# Altium footprint library Connector.PcbLib: 32 footprints (part 2 of 2)
Each footprint in its own frame and in the unit in brackets; x right, y up, seen from the top. Pads: shape width x height; smd on the part's side, far side on the other; paste and mask are expansions set on the pad; w line width, h text height; cw(c..) or ccw(c..) is an arc to the next point about the centre after c.
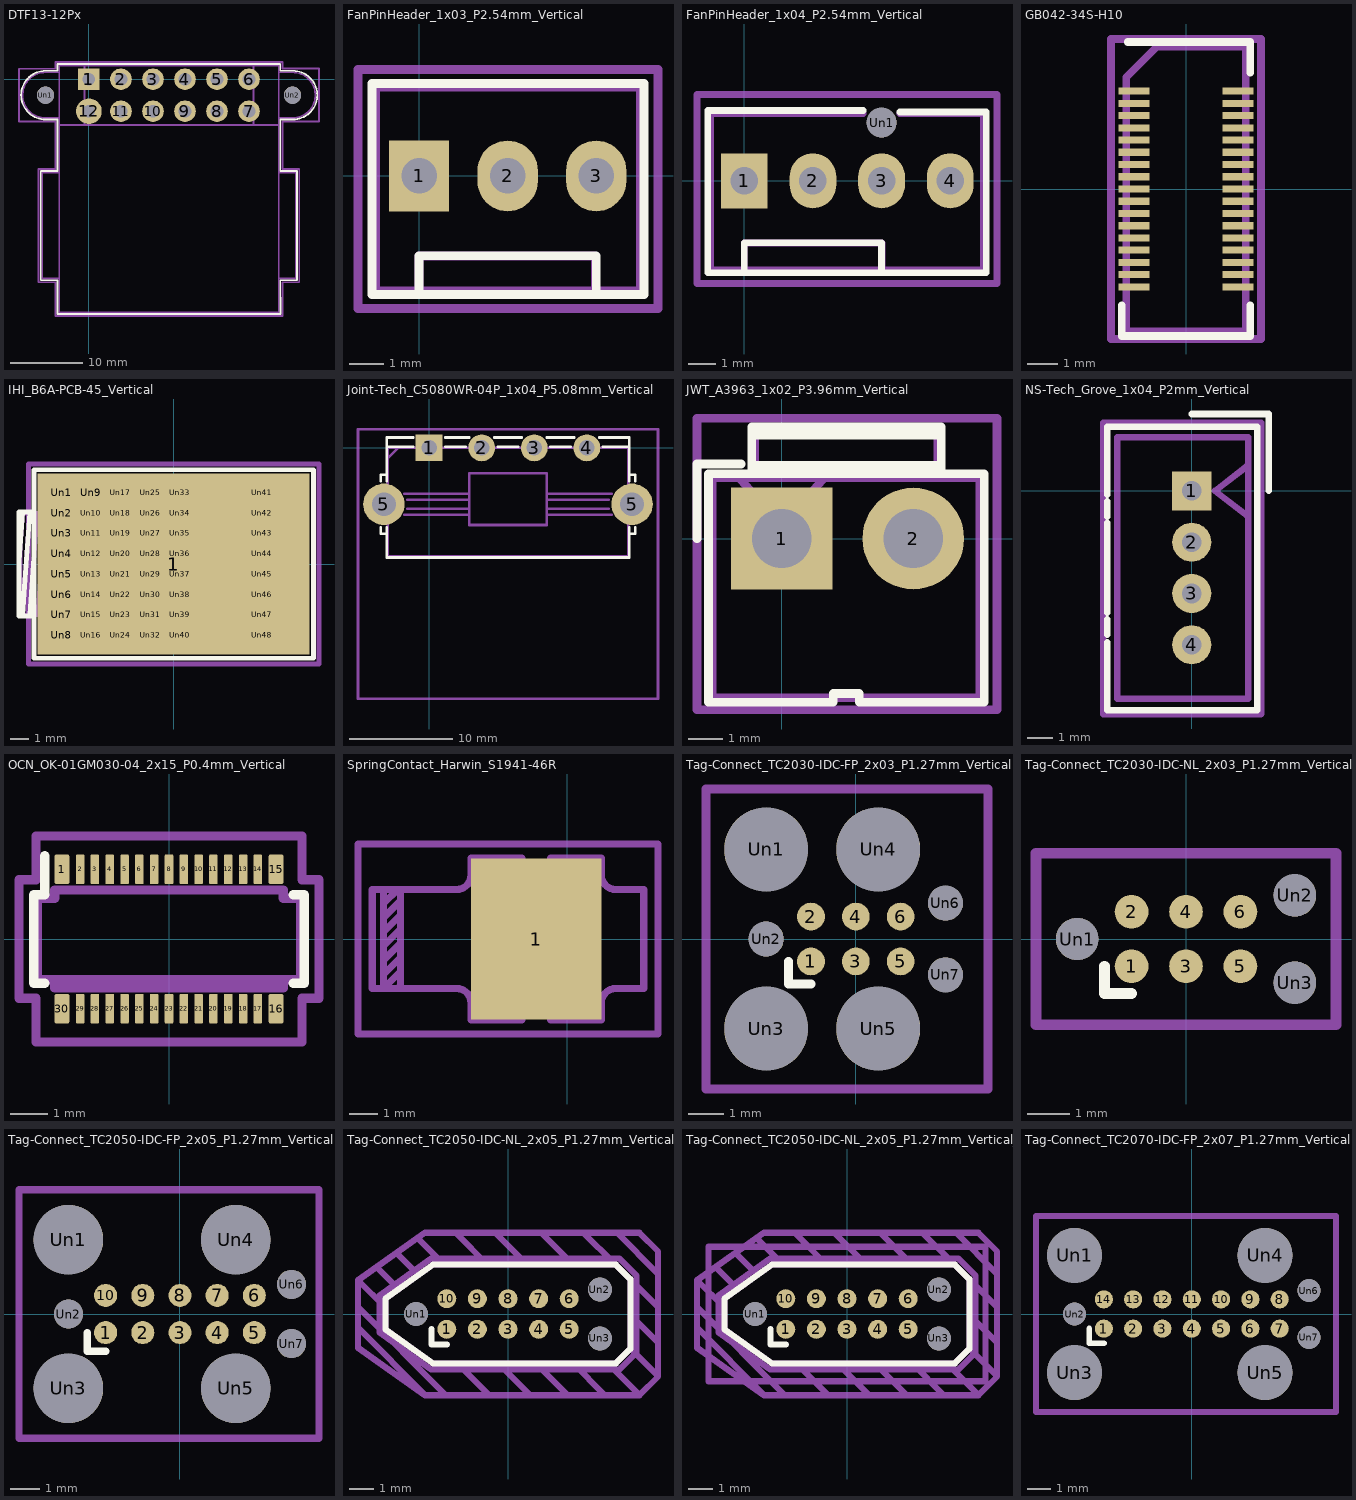
[diagram p1: the footprints below, top view; thin cyan lines are the x and y axes]

## DTF13-12Px [mm]
pads (14):
  rect 3x3 hole 1.75: 1(0,0)
  round 3 hole 1.75: 2(4.445,0) 3(8.89,0) 4(13.335,0) 5(17.78,0) 6(22.225,0) 7(22.225,-4.445) 8(17.78,-4.445) 9(13.335,-4.445) 10(8.89,-4.445) 11(4.445,-4.445)
  round 3.556 hole 1.75: 12(0,-4.445)
  round 2.4 hole 2.4: Un1(-6.032,-2.21) Un2(28.258,-2.21)
F.SilkS:
  lines w0.254: -6.033,-5.588 cw(c-6.032,-2.21) -6.032,1.168 ; -6.02,-5.588 -4.343,-5.588 -4.343,-12.751 -6.68,-12.751 -6.68,-27.915 -4.369,-27.915 -4.343,-32.588 26.594,-32.588 26.568,-27.915 28.905,-27.915 28.905,-12.751 26.568,-12.751 26.568,-5.588 28.296,-5.588 ; -6.02,1.168 -4.343,1.168 -4.343,2.108 26.568,2.108 26.568,1.168 28.296,1.168 ; 28.321,-5.588 ccw(c28.321,-2.21) 28.321,1.168
Top Assembly:
  lines w0.254: -6.032,0.965 -4.127,0.965 ; -5.999,0.965 ccw(c-6.032,-2.21) -6.033,-5.385 -4.127,-5.385 ; -4.127,-27.686 -6.477,-27.686 -6.477,-12.954 -4.127,-12.954 ; -4.127,-6.35 -0.635,-6.35 ; 26.352,-27.686 28.702,-27.686 28.702,-12.954 26.352,-12.954 ; 26.352,-6.35 22.86,-6.35 ; 26.352,-5.385 28.258,-5.385 ccw(c28.258,-2.21) 28.258,0.965 26.352,0.965 ; -0.635,-6.35 22.86,-6.35 ; -0.635,-6.35 -0.635,1.905 ; -0.635,1.905 22.86,1.905 ; -0.635,1.905 -4.127,1.905 -4.127,-32.385 26.352,-32.385 26.352,1.905 22.86,1.905 ; 22.86,-6.35 22.86,1.905
  text "'.Designator'" at 7.653,-19.74 h1
Top Courtyard:
  lines w0.254: -9.71,-5.88 -4.63,-5.88 -4.63,-12.45 -6.98,-12.45 -6.98,-28.19 -4.63,-28.19 -4.63,-32.88 26.85,-32.88 26.85,-28.19 29.2,-28.19 29.2,-12.45 26.85,-12.45 26.85,-5.88 31.94,-5.88 31.94,1.47 26.85,1.47 26.85,2.4 -4.63,2.4 -4.63,1.46 -9.71,1.46 -9.71,-5.88
Top Designator:
  text ".Designator" at 3.497,-15.748 h1.52

## FanPinHeader_1x03_P2.54mm_Vertical [mm]
pads (3):
  rect 1.73x2.03 hole 1.02: 1(0,0)
  rrect100% 1.73x2.03 hole 1.02: 2(2.54,0) 3(5.08,0)
F.SilkS:
  lines w0.254: 0,-3.3 0,-2.29 5.08,-2.29 5.08,-3.3 ; -1.35,-3.4 6.45,-3.4 6.45,2.65 -1.35,2.65 -1.35,-3.4
Top Assembly:
  lines w0.254: 0,-3.3 0,-2.3 5.05,-2.3 5.05,-3.3 ; -1.25,-3.3 6.35,-3.3 6.35,2.55 -1.25,2.55 -1.25,-3.3
  text "'.Designator'" at -1.597,-2.64 h1
Top Courtyard:
  lines w0.254: -1.75,-3.8 6.85,-3.8 6.85,3.05 -1.75,3.05 -1.75,-3.8
Top Designator:
  text ".Designator" at -5.068,-0.883 h1.52

## FanPinHeader_1x04_P2.54mm_Vertical [mm]
pads (5):
  rect 1.73x2.03 hole 1.02: 1(0,0)
  rrect100% 1.73x2.03 hole 1.02: 2(2.54,0) 3(5.08,0) 4(7.62,0)
  round 1.1 hole 1.1: Un1(5.08,2.16)
F.SilkS:
  lines w0.254: 0,-3.3 0,-2.29 5.08,-2.29 5.08,-3.3 ; 4.4,2.6 -1.35,2.6 -1.35,-3.4 8.95,-3.4 8.95,2.55 5.75,2.55
Top Assembly:
  lines w0.254: 0,-3.3 0,-2.3 5.1,-2.3 5.1,-3.3 ; 4.4,2.5 -1.25,2.5 -1.25,-3.3 -1.2,-3.3 8.85,-3.3 8.85,2.5 5.75,2.5
  text "'.Designator'" at -2.197,0.91 h1
Top Courtyard:
  lines w0.254: -1.75,-3.8 9.35,-3.8 9.35,3.2 -1.75,3.2 -1.75,-3.8
Top Designator:
  text ".Designator" at -4.052,-0.808 h1.52

## GB042-34S-H10 [mm]
pads (34):
  rect 1x0.23 smd: 1(-1.7,3.2) 2(-1.7,2.8) 3(-1.7,2.4) 4(-1.7,2) 5(-1.7,1.6) 6(-1.7,1.2) 7(-1.7,0.8) 8(-1.7,0.4) 9(-1.7,0) 10(-1.7,-0.4) 11(-1.7,-0.8) 12(-1.7,-1.2) 13(-1.7,-1.6) 14(-1.7,-2) 15(-1.7,-2.4) 16(-1.7,-2.8) 17(-1.7,-3.2) 18(1.7,-3.2) 19(1.7,-2.8) 20(1.7,-2.4) 21(1.7,-2) 22(1.7,-1.6) 23(1.7,-1.2) 24(1.7,-0.8) 25(1.7,-0.4) 26(1.7,0) 27(1.7,0.4) 28(1.7,0.8) 29(1.7,1.2) 30(1.7,1.6) 31(1.7,2) 32(1.7,2.4) 33(1.7,2.8) 34(1.7,3.2)
F.SilkS:
  lines w0.254: -2.1,-3.8 -2.1,-4.8 2.1,-4.8 2.1,-3.8 ; -1.9,4.8 2.1,4.8 2.1,3.8
Top Assembly:
  lines w0.254: -1.95,-4.65 1.95,-4.65 1.95,4.65 -0.95,4.65 -1.95,3.65 -1.95,-4.65
  text "'.Designator'" at -4.047,4.71 h1
Top Courtyard:
  lines w0.254: -2.45,-4.9 2.45,-4.9 2.45,4.9 -2.45,4.9 -2.45,-4.9
Top Designator:
  text ".Designator" at -7.768,-0.068 h1.52

## IHI_B6A-PCB-45_Vertical [mm]
pads (49):
  rect 14.7x9.8 smd: 1(0,0)
  rect 1.3x0.8 on Top Paste: Un1(-6.05,3.85) Un2(-6.05,2.75) Un3(-6.05,1.65) Un4(-6.05,0.55) Un5(-6.05,-0.55) Un6(-6.05,-1.65) Un7(-6.05,-2.75) Un8(-6.05,-3.85) Un9(-4.45,3.85) Un10(-4.45,2.75) Un11(-4.45,1.65) Un12(-4.45,0.55) Un13(-4.45,-0.55) Un14(-4.45,-1.65) Un15(-4.45,-2.75) Un16(-4.45,-3.85) Un17(-2.85,3.85) Un18(-2.85,2.75) Un19(-2.85,1.65) Un20(-2.85,0.55) Un21(-2.85,-0.55) Un22(-2.85,-1.65) Un23(-2.85,-2.75) Un24(-2.85,-3.85) Un25(-1.25,3.85) Un26(-1.25,2.75) Un27(-1.25,1.65) Un28(-1.25,0.55) Un29(-1.25,-0.55) Un30(-1.25,-1.65) Un31(-1.25,-2.75) Un32(-1.25,-3.85) Un33(0.35,3.85) Un34(0.35,2.75) Un35(0.35,1.65) Un36(0.35,0.55) Un37(0.35,-0.55) Un38(0.35,-1.65) Un39(0.35,-2.75) Un40(0.35,-3.85) Un41(4.78,3.85) Un42(4.78,2.75) Un43(4.78,1.65) Un44(4.78,0.55) Un45(4.78,-0.55) Un46(4.78,-1.65) Un47(4.78,-2.75) Un48(4.78,-3.85)
F.SilkS:
  lines w0.254: -8.36,0.175 -8.168,2.81 ; -8.173,-2.75 -7.773,2.75 ; -7.773,-2.75 -7.55,0.35 ; -7.55,-2.81 -8.36,-2.81 -8.36,2.81 -7.55,2.81 ; -7.55,-5.1 7.55,-5.1 7.55,5.1 -7.55,5.1 -7.55,-5.1
Top Assembly:
  lines w0.254: -8.3,1 -8.173,2.75 ; -8.173,-2.75 -7.773,2.75 ; -7.773,-2.75 -7.373,2.75 ; -7.35,-2.75 -6.95,2.75 ; -6.95,-2.75 -6.73,-0.275 ; -6.731,-2.75 -8.3,-2.75 -8.3,2.75 -6.731,2.75 ; 1.054,-4.267 1.054,4.267 ; 4.062,-4.267 4.062,4.267 ; 5.498,-4.267 5.498,4.267 ; -6.731,-4.267 6.731,-4.267 6.731,4.267 -6.731,4.267 -6.731,-4.267
  text "'.Designator'" at -3.997,4.91 h1
Top Courtyard:
  lines w0.254: -7.85,-5.4 7.85,-5.4 7.85,5.4 -7.85,5.4 -7.85,-5.4
Top Designator:
  text ".Designator" at -7.873,-0.218 h1.52

## Joint-Tech_C5080WR-04P_1x04_P5.08mm_Vertical [mm]
pads (6):
  rect 2.6x2.55 hole 1.52: 1(0,0)
  round 2.6 hole 1.52: 2(5.08,0) 3(10.16,0) 4(15.24,0)
  round 4 hole 2.3: 5(-4.38,-5.45) 5(19.62,-5.45)
F.SilkS:
  lines w0.254: -4.67,-7.7 -4.67,-8.3 -4.09,-8.3 ; -4.67,-3.2 -4.67,-2.6 -4.09,-2.6 ; -4.09,-7.7 -4.09,-10.6 19.33,-10.6 19.33,-7.7 ; -4.09,-3.2 -4.09,1 -1.55,1 ; -4.09,0.1 -1.55,0.1 ; 1.55,0.1 3.53,0.1 ; 1.55,1 3.88,1 ; 6.28,1 8.96,1 ; 6.63,0.1 8.61,0.1 ; 11.36,1 14.04,1 ; 11.71,0.1 13.69,0.1 ; 16.44,1 19.33,1 19.33,-3.2 ; 16.79,0.1 19.33,0.1 ; 19.33,-8.3 19.91,-8.3 19.91,-7.7 ; 19.33,-2.6 19.91,-2.6 19.91,-3.2
Top Assembly:
  lines w0.254: -3.99,-1 -2.99,0 ; -2.38,-6.45 3.84,-6.45 ; -2.38,-4.45 3.84,-4.45 ; -2.13,-5.9 3.84,-5.9 ; -2.13,-5 3.84,-5 ; 11.39,-6.45 17.62,-6.45 ; 11.39,-5.9 17.37,-5.9 ; 11.39,-5 17.37,-5 ; 11.39,-4.45 17.62,-4.45 ; -3.99,-10.5 19.23,-10.5 19.23,0 -3.99,0 -3.99,-10.5 ; 3.87,-7.45 11.37,-7.45 11.37,-2.45 3.87,-2.45 3.87,-7.45
  text "'.Designator'" at 3.573,-6.29 h1
Top Courtyard:
  lines w0.254: -6.88,-24.25 22.12,-24.25 22.12,1.8 -6.88,1.8 -6.88,-24.25
Top Designator:
  text ".Designator" at 0.002,-11.733 h1.52

## JWT_A3963_1x02_P3.96mm_Vertical [mm]
pads (2):
  rect 3x3 hole 1.75: 1(0,0)
  round 3 hole 1.75: 2(3.88,0)
F.SilkS:
  lines w0.254: -2.5,0 -2.5,2.2 -1.2,2.2 ; -0.89,1.91 -0.89,3.3 4.7,3.3 4.7,1.91 ; -0.89,2.16 4.7,2.16 ; -0.89,3.05 4.7,3.05 ; -2.16,-4.83 1.52,-4.83 1.52,-4.57 2.29,-4.57 2.29,-4.83 5.97,-4.83 5.97,0 5.97,1.91 -2.16,1.91 -2.16,0 -2.16,-4.83
Top Assembly:
  lines w0.254: -1.25,1.8 0,0.3 1.25,1.8 ; -0.8,1.8 -0.8,3.2 4.6,3.2 4.6,1.8 ; -2.05,-4.7 5.85,-4.7 5.85,1.8 -2.05,1.8 -2.05,-4.7
  text "'.Designator'" at -1.847,-4.54 h1
Top Courtyard:
  lines w0.254: -2.5,-5.05 6.35,-5.05 6.35,3.55 -2.5,3.55 -2.5,-5.05
Top Designator:
  text ".Designator" at -5.693,-1.258 h1.52

## NS-Tech_Grove_1x04_P2mm_Vertical [mil]
pads (4):
  rect 60x60 hole 30: 1(0,0)
  round 60 hole 30: 2(0,-78.74) 3(0,-157.48) 4(0,-236.22)
F.SilkS:
  lines w10: -129.92,-232.28 -129.92,-336.61 100.39,-336.61 100.39,98.43 -129.92,98.43 -129.92,-5.91 ; -129.92,-220.47 -129.92,-196.85 ; -129.92,-187.01 -129.92,-49.21 ; -129.92,-39.37 -129.92,-15.75 ; 0,118.11 118.11,118.11 118.11,0
Top Assembly:
  lines w10: 86.61,-39.37 35.43,0 86.61,39.37 ; -114.17,-318.9 86.61,-318.9 86.61,82.68 -114.17,82.68 -114.17,-318.9
  text "'.Designator'" at -45.66,-238.06 h39.37
Top Courtyard:
  lines w10: -135.83,-342.52 106.3,-342.52 106.3,104.33 -135.83,104.33 -135.83,-342.52
Top Designator:
  text ".Designator" at -308.76,-132.2 h60

## OCN_OK-01GM030-04_2x15_P0.4mm_Vertical [mm]
pads (30):
  rrect25% 0.4x0.8 smd: 1(-2.89,1.88) 15(2.89,1.88) 16(2.89,-1.88) 30(-2.89,-1.88)
  rrect25% 0.23x0.8 smd: 2(-2.4,1.88) 3(-2,1.88) 4(-1.6,1.88) 5(-1.2,1.88) 6(-0.8,1.88) 7(-0.4,1.88) 8(0,1.88) 9(0.4,1.88) 10(0.8,1.88) 11(1.2,1.88) 12(1.6,1.88) 13(2,1.88) 14(2.4,1.88) 17(2.4,-1.88) 18(2,-1.88) 19(1.6,-1.88) 20(1.2,-1.88) 21(0.8,-1.88) 22(0.4,-1.88) 23(0,-1.88) 24(-0.4,-1.88) 25(-0.8,-1.88) 26(-1.2,-1.88) 27(-1.6,-1.88) 28(-2,-1.88) 29(-2.4,-1.88)
F.SilkS:
  lines w0.254: -3.35,-1.2 -3.65,-1.2 -3.65,1.2 -3.35,1.2 -3.35,2.25 ; 3.35,-1.2 3.65,-1.2 3.65,1.2 3.35,1.2
Top Assembly:
  lines w0.254: -3.08,-1.323 3.08,-1.323 ; -3.08,-1.323 -3.08,-1.095 ; -3.08,-1.323 3.08,-1.323 ; -3.08,-1.323 -3.08,-1.095 ; -3.08,-1.095 3.08,-1.095 ; -3.08,-1.095 -3.55,-1.095 -3.55,1.095 -3.08,1.095 -3.08,1.323 3.08,1.323 3.08,1.095 3.55,1.095 3.55,-1.095 3.08,-1.095 ; 3.08,-1.323 3.08,-1.095 ; 3.08,-1.323 3.08,-1.095
  text "'.Designator'" at -4.047,-0.84 h1
Top Courtyard:
  lines w0.254: -4.05,-1.6 -3.59,-1.6 -3.59,-2.78 3.59,-2.78 3.59,-1.6 4.05,-1.6 4.05,1.6 3.59,1.6 3.59,2.78 -3.59,2.78 -3.59,1.6 -4.05,1.6 -4.05,-1.6
Top Designator:
  text ".Designator" at -7.627,-0.508 h1.52

## SpringContact_Harwin_S1941-46R [mm]
pads (1):
  rect 4.6x5.7 smd: 1(-1.1,0)
Top Assembly:
  lines w0.254: -6.89,-1.75 -3.9,-1.75 cw(c-3.9,-2.25) -3.4,-2.25 -3.4,-2.85 -1.6,-2.85 cw(c-1.1,-2.85) -0.6,-2.85 1.2,-2.85 1.2,-2.25 cw(c1.7,-2.25) 1.7,-1.75 2.7,-1.75 2.7,1.75 1.7,1.75 cw(c1.7,2.25) 1.2,2.25 1.2,2.85 -0.6,2.85 cw(c-1.1,2.85) -1.6,2.85 -3.4,2.85 -3.4,2.25 cw(c-3.9,2.25) -3.9,1.75 -6.89,1.75 -6.89,-1.75
  text "'.Designator'" at -4.047,-0.84 h1
Top Courtyard:
  lines w0.254: -7.39,-3.35 3.2,-3.35 3.2,3.35 -7.39,3.35 -7.39,-3.35
Top Designator:
  text ".Designator" at -9.428,-0.508 h1.52
Dwgs.User:
  lines w0.254: -6.49,-1.25 -5.89,-0.65 ; -6.49,-0.75 -5.89,-0.15 ; -6.49,-0.25 -5.89,0.35 ; -6.49,0.25 -5.89,0.85 ; -6.49,0.75 -5.89,1.35 ; -6.49,1.25 -5.99,1.75 ; -5.99,-1.75 -5.89,-1.65 ; -5.89,-1.15 -6.49,-1.75 ; -6.49,-1.75 -5.89,-1.75 -5.89,1.75 -6.49,1.75 -6.49,-1.75

## Tag-Connect_TC2030-IDC-FP_2x03_P1.27mm_Vertical [mil]
pads (13):
  round 31 smd: 1(-50,-25) 2(-50,25) 3(0,-25) 4(0,25) 5(50,-25) 6(50,25)
  round 93.5 hole 93.5: Un1(-100,100) Un3(-100,-100) Un4(25,100) Un5(25,-100)
  round 39 hole 39: Un2(-100,0) Un6(100,40) Un7(100,-40)
F.SilkS:
  lines w10: -75,-25 -75,-50 -50,-50
Top Assembly:
  text "'.Designator'" at -159.32,-33.08 h39.37
Top Courtyard:
  lines w10: -167.32,-167.32 147.64,-167.32 147.64,167.32 -167.32,167.32 -167.32,-167.32
Top Designator:
  text ".Designator" at -309.36,-19.99 h60
Cmts.User:
  text "KEEPOUT" at -49.65,-10.63 h15.75

## Tag-Connect_TC2030-IDC-NL_2x03_P1.27mm_Vertical [mil]
pads (9):
  round 31 smd: 1(-50,-25) 2(-50,25) 3(0,-25) 4(0,25) 5(50,-25) 6(50,25)
  round 39 hole 39: Un1(-100,0) Un2(100,40) Un3(100,-40)
F.SilkS:
  lines w10: -75,-25 -75,-50 -50,-50
Top Assembly:
  text "'.Designator'" at -159.32,-33.08 h39.37
Top Courtyard:
  lines w10: -137.8,-78.74 137.8,-78.74 137.8,78.74 -137.8,78.74 -137.8,-78.74
Top Designator:
  text ".Designator" at -305.81,-19.99 h60
Cmts.User:
  text "KEEPOUT" at -49.65,-10.63 h15.75

## Tag-Connect_TC2050-IDC-FP_2x05_P1.27mm_Vertical [mil]
pads (17):
  round 31 smd: 1(-100,-25) 2(-50,-25) 3(0,-25) 4(50,-25) 5(100,-25) 6(100,25) 7(50,25) 8(0,25) 9(-50,25) 10(-100,25)
  round 93.5 hole 93.5: Un1(-150,100) Un3(-150,-100) Un4(75,100) Un5(75,-100)
  round 39 hole 39: Un2(-150,0) Un6(150,40) Un7(150,-40)
F.SilkS:
  lines w10: -125,-25 -125,-50 -100,-50
Top Assembly:
  text "'.Designator'" at -159.32,-33.08 h39.37
Top Courtyard:
  lines w10: -216.54,-167.32 187.01,-167.32 187.01,167.32 -216.54,167.32 -216.54,-167.32
Top Designator:
  text ".Designator" at -314.67,-19.99 h60
Cmts.User:
  text "KEEPOUT" at -49.65,-10.63 h15.75

## Tag-Connect_TC2050-IDC-NL_2x05_P1.27mm_Vertical [mil]
pads (13):
  round 31 smd: 1(-100,-25) 2(-50,-25) 3(0,-25) 4(50,-25) 5(100,-25) 6(100,25) 7(50,25) 8(0,25) 9(-50,25) 10(-100,25)
  round 39 hole 39: Un1(-150,0) Un2(150,40) Un3(150,-40)
F.SilkS:
  lines w10: -125,-25 -125,-50 -100,-50 ; -200,-25.59 -122.05,-80.71 176.38,-80.71 200,-57.09 200,57.09 176.38,80.71 -122.05,80.71 -200,25.59 -200,-25.59
Top Assembly:
  text "'.Designator'" at -159.32,-33.08 h39.37
Top Courtyard:
  lines w10: -209.84,-30.32 -125.59,-90.55 182.28,-90.55 209.84,-62.99 209.84,62.99 182.28,90.55 -125.59,90.55 -209.84,30.32 -209.84,-30.32
Top Designator:
  text ".Designator" at -299.9,-19.99 h60
Dwgs.User:
  lines w10: -244.09,-23.62 -135.83,-131.89 ; -244.09,9.84 -102.36,-131.89 ; -212.6,74.8 -179.13,41.34 ; -200.79,10.91 -245,55.12 ; -181.1,98.43 -147.64,64.96 ; -147.64,124.02 -104.33,80.71 ; -84.65,131.89 -33.46,80.71 ; -82.68,-80.71 -31.5,-131.89 ; -19.68,131.89 31.5,80.71 ; -13.78,-82.68 35.43,-131.89 ; 45.28,-80.71 96.46,-131.89 ; 55.12,131.89 106.3,80.71 ; 106.3,-80.71 157.48,-131.89 ; 124.02,131.89 173.23,82.68 175.2,80.71 ; 165.35,-82.68 214.57,-131.89 ; 179.13,131.89 244.09,66.93 ; 200.79,-57.09 244.09,-100.39 ; 200.79,-1.97 244.09,-45.28 ; 244.09,12.99 200,57.09 ; -245,55.12 -245,-55.12 -135.83,-132.68 214.69,-132.68 245,-102.36 245,102.36 214.69,132.68 -135.83,132.68 -245,55.12 ; 200,57.09 200,-57.09 176.38,-80.71 -122.05,-80.71 -200,-25.59 -200,25.59 -122.05,80.71 176.38,80.71 200,57.09
Cmts.User:
  text "KEEPOUT" at -49.65,-10.63 h15.75
  text "6.35mm Z-KEEPOUT" at -107.67,93.51 h19.68
  text "6.35mm Z-KEEPOUT" at -107.67,-123.03 h19.68

## Tag-Connect_TC2050-IDC-NL_2x05_P1.27mm_Vertical_with_bottom_clip [mil]
pads (13):
  round 31 smd: 1(-100,-25) 2(-50,-25) 3(0,-25) 4(50,-25) 5(100,-25) 6(100,25) 7(50,25) 8(0,25) 9(-50,25) 10(-100,25)
  round 39 hole 39: Un1(-150,0) Un2(150,40) Un3(150,-40)
F.SilkS:
  lines w10: -125,-25 -125,-50 -100,-50 ; -200,-25.59 -122.05,-80.71 176.38,-80.71 200,-57.09 200,57.09 176.38,80.71 -122.05,80.71 -200,25.59 -200,-25.59
B.SilkS:
  lines w10: -215.35,-100 215.35,-100 215.35,100 -215.35,100 -215.35,-100
Top Assembly:
  text "'.Designator'" at -159.32,-33.08 h39.37
Top Courtyard:
  lines w10: -209.84,-30.32 -125.59,-90.55 182.28,-90.55 209.84,-62.99 209.84,62.99 182.28,90.55 -125.59,90.55 -209.84,30.32 -209.84,-30.32
Bottom Courtyard:
  lines w10: -226.38,-109.84 226.38,-109.84 226.38,109.84 -226.38,109.84 -226.38,-109.84
Top Designator:
  text ".Designator" at -299.9,-19.99 h60
Dwgs.User:
  lines w10: -244.09,-23.62 -135.83,-131.89 ; -244.09,9.84 -102.36,-131.89 ; -212.6,74.8 -179.13,41.34 ; -200.79,10.91 -245,55.12 ; -181.1,98.43 -147.64,64.96 ; -147.64,124.02 -104.33,80.71 ; -84.65,131.89 -33.46,80.71 ; -82.68,-80.71 -31.5,-131.89 ; -19.68,131.89 31.5,80.71 ; -13.78,-82.68 35.43,-131.89 ; 45.28,-80.71 96.46,-131.89 ; 55.12,131.89 106.3,80.71 ; 106.3,-80.71 157.48,-131.89 ; 124.02,131.89 173.23,82.68 175.2,80.71 ; 165.35,-82.68 214.57,-131.89 ; 179.13,131.89 244.09,66.93 ; 200.79,-57.09 244.09,-100.39 ; 200.79,-1.97 244.09,-45.28 ; 244.09,12.99 200,57.09 ; -245,55.12 -245,-55.12 -135.83,-132.68 214.69,-132.68 245,-102.36 245,102.36 214.69,132.68 -135.83,132.68 -245,55.12 ; 200,57.09 200,-57.09 176.38,-80.71 -122.05,-80.71 -200,-25.59 -200,25.59 -122.05,80.71 176.38,80.71 200,57.09
Cmts.User:
  text "6.35mm Z-KEEPOUT" at -107.67,93.51 h19.68
  text "6.35mm Z-KEEPOUT" at -107.67,-123.03 h19.68
  text "KEEPOUT" at -49.65,-10.63 h15.75

## Tag-Connect_TC2070-IDC-FP_2x07_P1.27mm_Vertical [mil]
pads (21):
  round 31 smd: 1(-150,-25) 2(-100,-25) 3(-50,-25) 4(0,-25) 5(50,-25) 6(100,-25) 7(150,-25) 8(150,25) 9(100,25) 10(50,25) 11(0,25) 12(-50,25) 13(-100,25) 14(-150,25)
  round 93.5 hole 93.5: Un1(-200,100) Un3(-200,-100) Un4(125,100) Un5(125,-100)
  round 39 hole 39: Un2(-200,0) Un6(200,40) Un7(200,-40)
F.SilkS:
  lines w10: -175,-25 -175,-50 -150,-50
Top Assembly:
  text "'.Designator'" at -159.32,-33.08 h39.37
Top Courtyard:
  lines w10: -265.75,-167.32 246.06,-167.32 246.06,167.32 -265.75,167.32 -265.75,-167.32
Top Designator:
  text ".Designator" at -309.75,-19.99 h60
Cmts.User:
  text "KEEPOUT" at -49.65,-10.63 h15.75